# EAGLE library part MAX16550GPN+ (library 911_circuits)
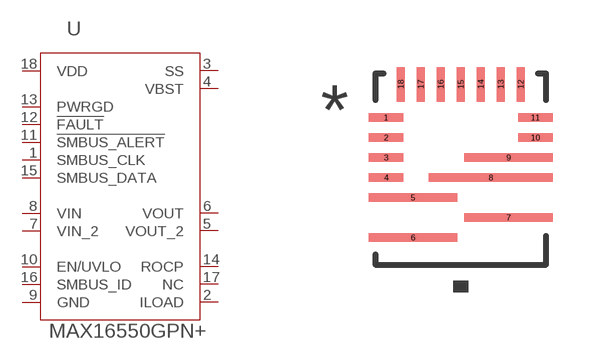
[diagram p7: symbol with the pads of QFN18_E_MXM; footprint QFN18_E_MXM]

Designator prefix U

## MAX16550GPN+ (COPYRIGHT: Copyright (C) 2025 Ultra Librarian. All rights reserved.; MANUFACTURER_PART_NUMBER: MAX16550GPN+; MFR_NAME: Analog Devices / Maxim Integrated)  [QFN18_E_MXM]
1  SMBUS_CLK  pas
2  ILOAD  pas
3  SS  in
4  VBST  pwr
5  VOUT_2  out
6  VOUT  out
7  VIN_2  pwr
8  VIN  pwr
9  GND  pas
10  EN/UVLO  pwr
11  !SMBUS_ALERT  out
12  !FAULT
13  PWRGD  out
14  ROCP  in
15  SMBUS_DATA  pas
16  SMBUS_ID  pas
17  NC  nc
18  VDD  pwr

## Footprint QFN18_E_MXM (pad centres in mm)
smd 0.864 x 0.203: 1 -1.867,1.29; 2 -1.867,0.79; 3 -1.867,0.29; 4 -1.867,-0.21; 10 1.867,0.79; 11 1.867,1.29
smd 2.21 x 0.203: 5 -1.194,-0.71; 6 -1.194,-1.71; 7 1.194,-1.21; 9 1.194,0.29
smd 3.099 x 0.203: 8 0.749,-0.21
smd 0.203 x 0.864: 12 1.5,2.121; 13 1,2.121; 14 0.5,2.121; 15 0,2.121; 16 -0.5,2.121; 17 -1,2.121; 18 -1.5,2.121